# Altium schematic symbol library RC2512JK-072RL.SchLib: 1 symbol
Pins are listed as number, name and electrical type; pins without a type are passive.

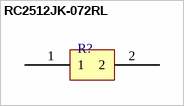
[diagram p0: symbol RC2512JK-072RL]

## RC2512JK-072RL
designator R?  (value not drawn)
footprint RC2512JK-072RL
pins: 1, 2